# Altium footprint library BGA361C50P65P23X23_1200X1200X120.PcbLib: 1 footprints
Each footprint in its own frame and in the unit in brackets; x right, y up, seen from the top. Pads: shape width x height; smd on the part's side, far side on the other; paste and mask are expansions set on the pad; w line width, h text height; cw(c..) or ccw(c..) is an arc to the next point about the centre after c.
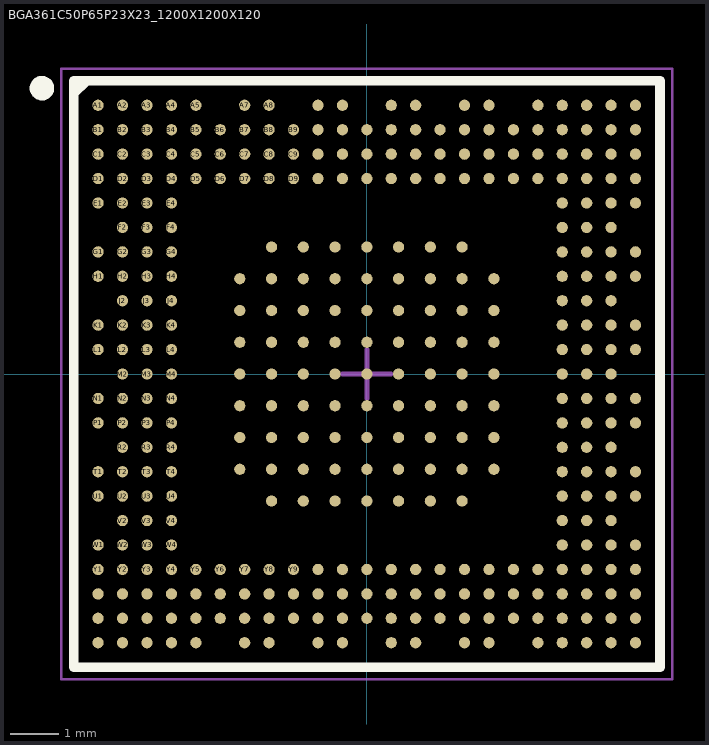
[diagram p0: the footprint, top view; thin cyan lines are the x and y axes]

## BGA361C50P65P23X23_1200X1200X120 [mm] "BGA, 361-Leads, Body 12.00x12.00mmx1.20mm, Pitch 0.50mm"
height 1.2
pads (361):
  round 0.23 smd mask+0.05: 1A2(-1.95,2.6) 1A3(-1.3,2.6) 1A4(-0.65,2.6) 1A5(0,2.6) 1A6(0.65,2.6) 1A7(1.3,2.6) 1A8(1.95,2.6) 1B1(-2.6,1.95) 1B2(-1.95,1.95) 1B3(-1.3,1.95) 1B4(-0.65,1.95) 1B5(0,1.95) 1B6(0.65,1.95) 1B7(1.3,1.95) 1B8(1.95,1.95) 1B9(2.6,1.95) 1C1(-2.6,1.3) 1C2(-1.95,1.3) 1C3(-1.3,1.3) 1C4(-0.65,1.3) 1C5(0,1.3) 1C6(0.65,1.3) 1C7(1.3,1.3) 1C8(1.95,1.3) 1C9(2.6,1.3) 1D1(-2.6,0.65) 1D2(-1.95,0.65) 1D3(-1.3,0.65) 1D4(-0.65,0.65) 1D5(0,0.65) 1D6(0.65,0.65) 1D7(1.3,0.65) 1D8(1.95,0.65) 1D9(2.6,0.65) 1E1(-2.6,0) 1E2(-1.95,0) 1E3(-1.3,0) 1E4(-0.65,0) 1E5(0,0) 1E6(0.65,0) 1E7(1.3,0) 1E8(1.95,0) 1E9(2.6,0) 1F1(-2.6,-0.65) 1F2(-1.95,-0.65) 1F3(-1.3,-0.65) 1F4(-0.65,-0.65) 1F5(0,-0.65) 1F6(0.65,-0.65) 1F7(1.3,-0.65) 1F8(1.95,-0.65) 1F9(2.6,-0.65) 1G1(-2.6,-1.3) 1G2(-1.95,-1.3) 1G3(-1.3,-1.3) 1G4(-0.65,-1.3) 1G5(0,-1.3) 1G6(0.65,-1.3) 1G7(1.3,-1.3) 1G8(1.95,-1.3) 1G9(2.6,-1.3) 1H1(-2.6,-1.95) 1H2(-1.95,-1.95) 1H3(-1.3,-1.95) 1H4(-0.65,-1.95) 1H5(0,-1.95) 1H6(0.65,-1.95) 1H7(1.3,-1.95) 1H8(1.95,-1.95) 1H9(2.6,-1.95) 1J2(-1.95,-2.6) 1J3(-1.3,-2.6) 1J4(-0.65,-2.6) 1J5(0,-2.6) 1J6(0.65,-2.6) 1J7(1.3,-2.6) 1J8(1.95,-2.6) A1(-5.5,5.5) A2(-5,5.5) A3(-4.5,5.5) A4(-4,5.5) A5(-3.5,5.5) A7(-2.5,5.5) A8(-2,5.5) A10(-1,5.5) A11(-0.5,5.5) A13(0.5,5.5) A14(1,5.5) A16(2,5.5) A17(2.5,5.5) A19(3.5,5.5) A20(4,5.5) A21(4.5,5.5) A22(5,5.5) A23(5.5,5.5) AA1(-5.5,-4.5) AA2(-5,-4.5) AA3(-4.5,-4.5) AA4(-4,-4.5) AA5(-3.5,-4.5) AA6(-3,-4.5) AA7(-2.5,-4.5) AA8(-2,-4.5) AA9(-1.5,-4.5) AA10(-1,-4.5) AA11(-0.5,-4.5) AA12(0,-4.5) AA13(0.5,-4.5) AA14(1,-4.5) AA15(1.5,-4.5) AA16(2,-4.5) AA17(2.5,-4.5) AA18(3,-4.5) AA19(3.5,-4.5) AA20(4,-4.5) AA21(4.5,-4.5) AA22(5,-4.5) AA23(5.5,-4.5) AB1(-5.5,-5) AB2(-5,-5) AB3(-4.5,-5) AB4(-4,-5) AB5(-3.5,-5) AB6(-3,-5) AB7(-2.5,-5) AB8(-2,-5) AB9(-1.5,-5) AB10(-1,-5) AB11(-0.5,-5) AB12(0,-5) AB13(0.5,-5) AB14(1,-5) AB15(1.5,-5) AB16(2,-5) AB17(2.5,-5) AB18(3,-5) AB19(3.5,-5) AB20(4,-5) AB21(4.5,-5) AB22(5,-5) AB23(5.5,-5) AC1(-5.5,-5.5) AC2(-5,-5.5) AC3(-4.5,-5.5) AC4(-4,-5.5) AC5(-3.5,-5.5) AC7(-2.5,-5.5) AC8(-2,-5.5) AC10(-1,-5.5) AC11(-0.5,-5.5) AC13(0.5,-5.5) AC14(1,-5.5) AC16(2,-5.5) AC17(2.5,-5.5) AC19(3.5,-5.5) AC20(4,-5.5) AC21(4.5,-5.5) AC22(5,-5.5) AC23(5.5,-5.5) B1(-5.5,5) B2(-5,5) B3(-4.5,5) B4(-4,5) B5(-3.5,5) B6(-3,5) B7(-2.5,5) B8(-2,5) B9(-1.5,5) B10(-1,5) B11(-0.5,5) B12(0,5) B13(0.5,5) B14(1,5) B15(1.5,5) B16(2,5) B17(2.5,5) B18(3,5) B19(3.5,5) B20(4,5) B21(4.5,5) B22(5,5) B23(5.5,5) C1(-5.5,4.5) C2(-5,4.5) C3(-4.5,4.5) C4(-4,4.5) C5(-3.5,4.5) C6(-3,4.5) C7(-2.5,4.5) C8(-2,4.5) C9(-1.5,4.5) C10(-1,4.5) C11(-0.5,4.5) C12(0,4.5) C13(0.5,4.5) C14(1,4.5) C15(1.5,4.5) C16(2,4.5) C17(2.5,4.5) C18(3,4.5) C19(3.5,4.5) C20(4,4.5) C21(4.5,4.5) C22(5,4.5) C23(5.5,4.5) D1(-5.5,4) D2(-5,4) D3(-4.5,4) D4(-4,4) D5(-3.5,4) D6(-3,4) D7(-2.5,4) D8(-2,4) D9(-1.5,4) D10(-1,4) D11(-0.5,4) D12(0,4) D13(0.5,4) D14(1,4) D15(1.5,4) D16(2,4) D17(2.5,4) D18(3,4) D19(3.5,4) D20(4,4) D21(4.5,4) D22(5,4) D23(5.5,4) E1(-5.5,3.5) E2(-5,3.5) E3(-4.5,3.5) E4(-4,3.5) E20(4,3.5) E21(4.5,3.5) E22(5,3.5) E23(5.5,3.5) F2(-5,3) F3(-4.5,3) F4(-4,3) F20(4,3) F21(4.5,3) F22(5,3) G1(-5.5,2.5) G2(-5,2.5) G3(-4.5,2.5) G4(-4,2.5) G20(4,2.5) G21(4.5,2.5) G22(5,2.5) G23(5.5,2.5) H1(-5.5,2) H2(-5,2) H3(-4.5,2) H4(-4,2) H20(4,2) H21(4.5,2) H22(5,2) H23(5.5,2) J2(-5,1.5) J3(-4.5,1.5) J4(-4,1.5) J20(4,1.5) J21(4.5,1.5) J22(5,1.5) K1(-5.5,1) K2(-5,1) K3(-4.5,1) K4(-4,1) K20(4,1) K21(4.5,1) K22(5,1) K23(5.5,1) L1(-5.5,0.5) L2(-5,0.5) L3(-4.5,0.5) L4(-4,0.5) L20(4,0.5) L21(4.5,0.5) L22(5,0.5) L23(5.5,0.5) M2(-5,0) M3(-4.5,0) M4(-4,0) M20(4,0) M21(4.5,0) M22(5,0) N1(-5.5,-0.5) N2(-5,-0.5) N3(-4.5,-0.5) N4(-4,-0.5) N20(4,-0.5) N21(4.5,-0.5) N22(5,-0.5) N23(5.5,-0.5) P1(-5.5,-1) P2(-5,-1) P3(-4.5,-1) P4(-4,-1) P20(4,-1) P21(4.5,-1) P22(5,-1) P23(5.5,-1) R2(-5,-1.5) R3(-4.5,-1.5) R4(-4,-1.5) R20(4,-1.5) R21(4.5,-1.5) R22(5,-1.5) T1(-5.5,-2) T2(-5,-2) T3(-4.5,-2) T4(-4,-2) T20(4,-2) T21(4.5,-2) T22(5,-2) T23(5.5,-2) U1(-5.5,-2.5) U2(-5,-2.5) U3(-4.5,-2.5) U4(-4,-2.5) U20(4,-2.5) U21(4.5,-2.5) U22(5,-2.5) U23(5.5,-2.5) V2(-5,-3) V3(-4.5,-3) V4(-4,-3) V20(4,-3) V21(4.5,-3) V22(5,-3) W1(-5.5,-3.5) W2(-5,-3.5) W3(-4.5,-3.5) W4(-4,-3.5) W20(4,-3.5) W21(4.5,-3.5) W22(5,-3.5) W23(5.5,-3.5) Y1(-5.5,-4) Y2(-5,-4) Y3(-4.5,-4) Y4(-4,-4) Y5(-3.5,-4) Y6(-3,-4) Y7(-2.5,-4) Y8(-2,-4) Y9(-1.5,-4) Y10(-1,-4) Y11(-0.5,-4) Y12(0,-4) Y13(0.5,-4) Y14(1,-4) Y15(1.5,-4) Y16(2,-4) Y17(2.5,-4) Y18(3,-4) Y19(3.5,-4) Y20(4,-4) Y21(4.5,-4) Y22(5,-4) Y23(5.5,-4)
Top Overlay:
  circle w0.25: c-6.65,5.85 r0.125
  region: -5.742,6 -6,5.742 -6,6
  lines w0.2: -6,5.742 -5.742,6 ; -6,-6 -6,6 6,6 6,-6 -6,-6
Top Assembly:
  lines w0.1: -6,-6 -6,6 6,6 6,-6 -6,-6
Top Courtyard:
  lines w0.05: -6.25,-6.25 -6.25,6.25 6.25,6.25 6.25,-6.25 -6.25,-6.25
  lines w0.1: -0.5,0 0.5,0 ; 0,-0.5 0,0.5
3D body: height 0.26, standoff -0.04, extent 5.35,5.35 5.65,5.65
3D body: height 0.26, standoff -0.04, extent 4.85,5.35 5.15,5.65
3D body: height 0.26, standoff -0.04, extent 4.35,5.35 4.65,5.65
3D body: height 0.26, standoff -0.04, extent 5.35,4.85 5.65,5.15
3D body: height 0.26, standoff -0.04, extent 4.85,4.85 5.15,5.15
3D body: height 0.26, standoff -0.04, extent 4.35,4.85 4.65,5.15
3D body: height 0.26, standoff -0.04, extent 4.85,4.35 5.15,4.65
3D body: height 0.26, standoff -0.04, extent 5.35,4.35 5.65,4.65
3D body: height 0.26, standoff -0.04, extent 4.35,4.35 4.65,4.65
3D body: height 0.26, standoff -0.04, extent 5.35,3.85 5.65,4.15
3D body: height 0.26, standoff -0.04, extent 4.85,3.85 5.15,4.15
3D body: height 0.26, standoff -0.04, extent 4.35,3.85 4.65,4.15
3D body: height 0.26, standoff -0.04, extent 5.35,3.35 5.65,3.65
3D body: height 0.26, standoff -0.04, extent 4.85,3.35 5.15,3.65
3D body: height 0.26, standoff -0.04, extent 4.85,2.85 5.15,3.15
3D body: height 0.26, standoff -0.04, extent 4.85,2.35 5.15,2.65
3D body: height 0.26, standoff -0.04, extent 5.35,2.35 5.65,2.65
3D body: height 0.26, standoff -0.04, extent 5.35,1.85 5.65,2.15
3D body: height 0.26, standoff -0.04, extent 4.85,1.85 5.15,2.15
3D body: height 0.26, standoff -0.04, extent 4.85,1.35 5.15,1.65
3D body: height 0.26, standoff -0.04, extent 4.85,0.85 5.15,1.15
3D body: height 0.26, standoff -0.04, extent 5.35,0.85 5.65,1.15
3D body: height 0.26, standoff -0.04, extent 4.35,0.85 4.65,1.15
3D body: height 0.26, standoff -0.04, extent 4.85,0.35 5.15,0.65
3D body: height 0.26, standoff -0.04, extent 5.35,0.35 5.65,0.65
3D body: height 0.26, standoff -0.04, extent 4.85,-0.15 5.15,0.15
3D body: height 0.26, standoff -0.04, extent 4.85,-0.65 5.15,-0.35
3D body: height 0.26, standoff -0.04, extent 5.35,-0.65 5.65,-0.35
3D body: height 0.26, standoff -0.04, extent 3.85,5.35 4.15,5.65
3D body: height 0.26, standoff -0.04, extent 3.35,5.35 3.65,5.65
3D body: height 0.26, standoff -0.04, extent 3.85,4.85 4.15,5.15
3D body: height 0.26, standoff -0.04, extent 3.35,4.85 3.65,5.15
3D body: height 0.26, standoff -0.04, extent 2.85,4.85 3.15,5.15
3D body: height 0.26, standoff -0.04, extent 3.85,4.35 4.15,4.65
3D body: height 0.26, standoff -0.04, extent 2.85,4.35 3.15,4.65
3D body: height 0.26, standoff -0.04, extent 3.35,4.35 3.65,4.65
3D body: height 0.26, standoff -0.04, extent 3.85,3.85 4.15,4.15
3D body: height 0.26, standoff -0.04, extent 2.85,3.85 3.15,4.15
3D body: height 0.26, standoff -0.04, extent 3.35,3.85 3.65,4.15
3D body: height 0.26, standoff -0.04, extent 4.35,3.35 4.65,3.65
3D body: height 0.26, standoff -0.04, extent 3.85,3.35 4.15,3.65
3D body: height 0.26, standoff -0.04, extent 4.35,2.85 4.65,3.15
3D body: height 0.26, standoff -0.04, extent 3.85,2.85 4.15,3.15
3D body: height 0.26, standoff -0.04, extent 4.35,2.35 4.65,2.65
3D body: height 0.26, standoff -0.04, extent 3.85,2.35 4.15,2.65
3D body: height 0.26, standoff -0.04, extent 4.35,1.85 4.65,2.15
3D body: height 0.26, standoff -0.04, extent 3.85,1.85 4.15,2.15
3D body: height 0.26, standoff -0.04, extent 2.45,1.8 2.75,2.1
3D body: height 0.26, standoff -0.04, extent 4.35,1.35 4.65,1.65
3D body: height 0.26, standoff -0.04, extent 3.85,1.35 4.15,1.65
3D body: height 0.26, standoff -0.04, extent 2.45,1.15 2.75,1.45
3D body: height 0.26, standoff -0.04, extent 3.85,0.85 4.15,1.15
3D body: height 0.26, standoff -0.04, extent 2.45,0.5 2.75,0.8
3D body: height 0.26, standoff -0.04, extent 4.35,0.35 4.65,0.65
3D body: height 0.26, standoff -0.04, extent 3.85,0.35 4.15,0.65
3D body: height 0.26, standoff -0.04, extent 4.35,-0.15 4.65,0.15
3D body: height 0.26, standoff -0.04, extent 3.85,-0.15 4.15,0.15
3D body: height 0.26, standoff -0.04, extent 2.45,-0.15 2.75,0.15
3D body: height 0.26, standoff -0.04, extent 4.35,-0.65 4.65,-0.35
3D body: height 0.26, standoff -0.04, extent 3.85,-0.65 4.15,-0.35
3D body: height 0.26, standoff -0.04, extent 5.35,-1.15 5.65,-0.85
3D body: height 0.26, standoff -0.04, extent 4.85,-1.15 5.15,-0.85
3D body: height 0.26, standoff -0.04, extent 4.35,-1.15 4.65,-0.85
3D body: height 0.26, standoff -0.04, extent 4.85,-1.65 5.15,-1.35
3D body: height 0.26, standoff -0.04, extent 4.35,-1.65 4.65,-1.35
3D body: height 0.26, standoff -0.04, extent 5.35,-2.15 5.65,-1.85
3D body: height 0.26, standoff -0.04, extent 4.85,-2.15 5.15,-1.85
3D body: height 0.26, standoff -0.04, extent 4.35,-2.15 4.65,-1.85
3D body: height 0.26, standoff -0.04, extent 5.35,-2.65 5.65,-2.35
3D body: height 0.26, standoff -0.04, extent 4.85,-2.65 5.15,-2.35
3D body: height 0.26, standoff -0.04, extent 4.35,-2.65 4.65,-2.35
3D body: height 0.26, standoff -0.04, extent 4.85,-3.15 5.15,-2.85
3D body: height 0.26, standoff -0.04, extent 4.35,-3.15 4.65,-2.85
3D body: height 0.26, standoff -0.04, extent 5.35,-3.65 5.65,-3.35
3D body: height 0.26, standoff -0.04, extent 4.85,-3.65 5.15,-3.35
3D body: height 0.26, standoff -0.04, extent 4.35,-3.65 4.65,-3.35
3D body: height 0.26, standoff -0.04, extent 4.85,-4.15 5.15,-3.85
3D body: height 0.26, standoff -0.04, extent 5.35,-4.15 5.65,-3.85
3D body: height 0.26, standoff -0.04, extent 4.35,-4.15 4.65,-3.85
3D body: height 0.26, standoff -0.04, extent 3.85,-4.15 4.15,-3.85
3D body: height 0.26, standoff -0.04, extent 5.35,-4.65 5.65,-4.35
3D body: height 0.26, standoff -0.04, extent 4.85,-4.65 5.15,-4.35
3D body: height 0.26, standoff -0.04, extent 4.35,-4.65 4.65,-4.35
3D body: height 0.26, standoff -0.04, extent 3.85,-4.65 4.15,-4.35
3D body: height 0.26, standoff -0.04, extent 4.85,-5.15 5.15,-4.85
3D body: height 0.26, standoff -0.04, extent 5.35,-5.15 5.65,-4.85
3D body: height 0.26, standoff -0.04, extent 4.35,-5.15 4.65,-4.85
3D body: height 0.26, standoff -0.04, extent 3.85,-5.15 4.15,-4.85
3D body: height 0.26, standoff -0.04, extent 5.35,-5.65 5.65,-5.35
3D body: height 0.26, standoff -0.04, extent 4.85,-5.65 5.15,-5.35
3D body: height 0.26, standoff -0.04, extent 4.35,-5.65 4.65,-5.35
3D body: height 0.26, standoff -0.04, extent 3.85,-5.65 4.15,-5.35
3D body: height 0.26, standoff -0.04, extent 3.85,-1.15 4.15,-0.85
3D body: height 0.26, standoff -0.04, extent 3.85,-3.65 4.15,-3.35
3D body: height 0.26, standoff -0.04, extent 3.85,-3.15 4.15,-2.85
3D body: height 0.26, standoff -0.04, extent 3.85,-2.65 4.15,-2.35
3D body: height 0.26, standoff -0.04, extent 3.85,-1.65 4.15,-1.35
3D body: height 0.26, standoff -0.04, extent 3.85,-2.15 4.15,-1.85
3D body: height 0.26, standoff -0.04, extent 3.35,-5.15 3.65,-4.85
3D body: height 0.26, standoff -0.04, extent 3.35,-5.65 3.65,-5.35
3D body: height 0.26, standoff -0.04, extent 3.35,-4.15 3.65,-3.85
3D body: height 0.26, standoff -0.04, extent 3.35,-4.65 3.65,-4.35
3D body: height 0.26, standoff -0.04, extent 2.85,-4.15 3.15,-3.85
3D body: height 0.26, standoff -0.04, extent 2.85,-4.65 3.15,-4.35
3D body: height 0.26, standoff -0.04, extent 2.85,-5.15 3.15,-4.85
3D body: height 0.26, standoff -0.04, extent 2.45,-0.8 2.75,-0.5
3D body: height 0.26, standoff -0.04, extent 2.45,-2.1 2.75,-1.8
3D body: height 0.26, standoff -0.04, extent 2.45,-1.45 2.75,-1.15
3D body: height 0.26, standoff -0.04, extent 2.35,5.35 2.65,5.65
3D body: height 0.26, standoff -0.04, extent 2.35,4.85 2.65,5.15
3D body: height 0.26, standoff -0.04, extent 2.35,4.35 2.65,4.65
3D body: height 0.26, standoff -0.04, extent 2.35,3.85 2.65,4.15
3D body: height 0.26, standoff -0.04, extent 1.85,4.85 2.15,5.15
3D body: height 0.26, standoff -0.04, extent 1.85,5.35 2.15,5.65
3D body: height 0.26, standoff -0.04, extent 1.85,4.35 2.15,4.65
3D body: height 0.26, standoff -0.04, extent 1.85,3.85 2.15,4.15
3D body: height 0.26, standoff -0.04, extent 1.35,4.85 1.65,5.15
3D body: height 0.26, standoff -0.04, extent 1.35,4.35 1.65,4.65
3D body: height 0.26, standoff -0.04, extent 0.85,5.35 1.15,5.65
3D body: height 0.26, standoff -0.04, extent 0.85,4.85 1.15,5.15
3D body: height 0.26, standoff -0.04, extent 0.85,4.35 1.15,4.65
3D body: height 0.26, standoff -0.04, extent 0.85,3.85 1.15,4.15
3D body: height 0.26, standoff -0.04, extent 0.35,4.85 0.65,5.15
3D body: height 0.26, standoff -0.04, extent 0.35,5.35 0.65,5.65
3D body: height 0.26, standoff -0.04, extent 0.35,4.35 0.65,4.65
3D body: height 0.26, standoff -0.04, extent 0.35,3.85 0.65,4.15
3D body: height 0.26, standoff -0.04, extent -0.15,4.85 0.15,5.15
3D body: height 0.26, standoff -0.04, extent -0.15,4.35 0.15,4.65
3D body: height 0.26, standoff -0.04, extent -0.15,3.85 0.15,4.15
3D body: height 0.26, standoff -0.04, extent -0.65,5.35 -0.35,5.65
3D body: height 0.26, standoff -0.04, extent -0.65,4.85 -0.35,5.15
3D body: height 0.26, standoff -0.04, extent -0.65,4.35 -0.35,4.65
3D body: height 0.26, standoff -0.04, extent -0.65,3.85 -0.35,4.15
3D body: height 0.26, standoff -0.04, extent -1.15,4.85 -0.85,5.15
3D body: height 0.26, standoff -0.04, extent -1.15,5.35 -0.85,5.65
3D body: height 0.26, standoff -0.04, extent -1.15,4.35 -0.85,4.65
3D body: height 0.26, standoff -0.04, extent -1.15,3.85 -0.85,4.15
3D body: height 0.26, standoff -0.04, extent -1.65,4.85 -1.35,5.15
3D body: height 0.26, standoff -0.04, extent -1.65,4.35 -1.35,4.65
3D body: height 0.26, standoff -0.04, extent -2.15,4.35 -1.85,4.65
3D body: height 0.26, standoff -0.04, extent 1.8,2.45 2.1,2.75
3D body: height 0.26, standoff -0.04, extent 1.8,0.5 2.1,0.8
3D body: height 0.26, standoff -0.04, extent 1.8,-0.15 2.1,0.15
3D body: height 0.26, standoff -0.04, extent 1.8,1.15 2.1,1.45
3D body: height 0.26, standoff -0.04, extent 1.8,1.8 2.1,2.1
3D body: height 0.26, standoff -0.04, extent 1.35,3.85 1.65,4.15
3D body: height 0.26, standoff -0.04, extent 1.15,2.45 1.45,2.75
3D body: height 0.26, standoff -0.04, extent 1.15,1.15 1.45,1.45
3D body: height 0.26, standoff -0.04, extent 1.15,1.8 1.45,2.1
3D body: height 0.26, standoff -0.04, extent 1.15,0.5 1.45,0.8
3D body: height 0.26, standoff -0.04, extent 0.5,2.45 0.8,2.75
3D body: height 0.26, standoff -0.04, extent 0.5,1.8 0.8,2.1
3D body: height 0.26, standoff -0.04, extent 0.5,0.5 0.8,0.8
3D body: height 0.26, standoff -0.04, extent 0.5,1.15 0.8,1.45
3D body: height 0.26, standoff -0.04, extent -0.15,2.45 0.15,2.75
3D body: height 0.26, standoff -0.04, extent -0.15,1.8 0.15,2.1
3D body: height 0.26, standoff -0.04, extent -0.15,0.5 0.15,0.8
3D body: height 0.26, standoff -0.04, extent -0.15,1.15 0.15,1.45
3D body: height 0.26, standoff -0.04, extent -0.8,2.45 -0.5,2.75
3D body: height 0.26, standoff -0.04, extent -0.8,-0.15 -0.5,0.15
3D body: height 0.26, standoff -0.04, extent -0.8,1.8 -0.5,2.1
3D body: height 0.26, standoff -0.04, extent -0.8,0.5 -0.5,0.8
3D body: height 0.26, standoff -0.04, extent -0.8,1.15 -0.5,1.45
3D body: height 0.26, standoff -0.04, extent -1.45,2.45 -1.15,2.75
3D body: height 0.26, standoff -0.04, extent -1.45,0.5 -1.15,0.8
3D body: height 0.26, standoff -0.04, extent -1.45,1.8 -1.15,2.1
3D body: height 0.26, standoff -0.04, extent -1.45,1.15 -1.15,1.45
3D body: height 0.26, standoff -0.04, extent -1.65,3.85 -1.35,4.15
3D body: height 0.26, standoff -0.04, extent -2.1,2.45 -1.8,2.75
3D body: height 0.26, standoff -0.04, extent -2.1,1.8 -1.8,2.1
3D body: height 0.26, standoff -0.04, extent -2.1,0.5 -1.8,0.8
3D body: height 0.26, standoff -0.04, extent -2.1,1.15 -1.8,1.45
3D body: height 0.26, standoff -0.04, extent -2.15,5.35 -1.85,5.65
3D body: height 0.26, standoff -0.04, extent -2.15,4.85 -1.85,5.15
3D body: height 0.26, standoff -0.04, extent -2.15,3.85 -1.85,4.15
3D body: height 0.26, standoff -0.04, extent -2.65,5.35 -2.35,5.65
3D body: height 0.26, standoff -0.04, extent -2.65,4.85 -2.35,5.15
3D body: height 0.26, standoff -0.04, extent -2.65,4.35 -2.35,4.65
3D body: height 0.26, standoff -0.04, extent -2.65,3.85 -2.35,4.15
3D body: height 0.26, standoff -0.04, extent -3.15,4.85 -2.85,5.15
3D body: height 0.26, standoff -0.04, extent -3.15,4.35 -2.85,4.65
3D body: height 0.26, standoff -0.04, extent -3.15,3.85 -2.85,4.15
3D body: height 0.26, standoff -0.04, extent -3.65,5.35 -3.35,5.65
3D body: height 0.26, standoff -0.04, extent -3.65,4.35 -3.35,4.65
3D body: height 0.26, standoff -0.04, extent -3.65,4.85 -3.35,5.15
3D body: height 0.26, standoff -0.04, extent -3.65,3.85 -3.35,4.15
3D body: height 0.26, standoff -0.04, extent -4.15,5.35 -3.85,5.65
3D body: height 0.26, standoff -0.04, extent -4.15,4.85 -3.85,5.15
3D body: height 0.26, standoff -0.04, extent -4.15,4.35 -3.85,4.65
3D body: height 0.26, standoff -0.04, extent -4.15,3.85 -3.85,4.15
3D body: height 0.26, standoff -0.04, extent -4.65,5.35 -4.35,5.65
3D body: height 0.26, standoff -0.04, extent -4.65,4.35 -4.35,4.65
3D body: height 0.26, standoff -0.04, extent -4.65,4.85 -4.35,5.15
3D body: height 0.26, standoff -0.04, extent -4.65,3.85 -4.35,4.15
3D body: height 0.26, standoff -0.04, extent -5.15,4.35 -4.85,4.65
3D body: height 0.26, standoff -0.04, extent -5.15,4.85 -4.85,5.15
3D body: height 0.26, standoff -0.04, extent -5.15,5.35 -4.85,5.65
3D body: height 0.26, standoff -0.04, extent -5.15,3.85 -4.85,4.15
3D body: height 0.26, standoff -0.04, extent -5.65,4.85 -5.35,5.15
3D body: height 0.26, standoff -0.04, extent -5.65,4.35 -5.35,4.65
3D body: height 0.26, standoff -0.04, extent -5.65,5.35 -5.35,5.65
3D body: height 0.26, standoff -0.04, extent -5.65,3.85 -5.35,4.15
3D body: height 1.21, standoff 1.2, extent -5.8,5.2 -5.2,5.8
3D body: height 1.21, standoff 1.2, extent -5.8,5.2 -5.2,5.8
3D body: height 0.26, standoff -0.04, extent -2.75,0.5 -2.45,0.8
3D body: height 0.26, standoff -0.04, extent -2.75,1.15 -2.45,1.45
3D body: height 0.26, standoff -0.04, extent -2.75,1.8 -2.45,2.1
3D body: height 0.26, standoff -0.04, extent -4.15,2.35 -3.85,2.65
3D body: height 0.26, standoff -0.04, extent -4.15,1.85 -3.85,2.15
3D body: height 0.26, standoff -0.04, extent -4.15,0.85 -3.85,1.15
3D body: height 0.26, standoff -0.04, extent -4.15,0.35 -3.85,0.65
3D body: height 0.26, standoff -0.04, extent -4.15,-0.15 -3.85,0.15
3D body: height 0.26, standoff -0.04, extent -4.15,3.35 -3.85,3.65
3D body: height 0.26, standoff -0.04, extent -4.15,2.85 -3.85,3.15
3D body: height 0.26, standoff -0.04, extent -4.15,1.35 -3.85,1.65
3D body: height 0.26, standoff -0.04, extent -4.65,0.35 -4.35,0.65
3D body: height 0.26, standoff -0.04, extent -4.65,-0.15 -4.35,0.15
3D body: height 0.26, standoff -0.04, extent -4.65,1.35 -4.35,1.65
3D body: height 0.26, standoff -0.04, extent -4.65,3.35 -4.35,3.65
3D body: height 0.26, standoff -0.04, extent -4.65,1.85 -4.35,2.15
3D body: height 0.26, standoff -0.04, extent -4.65,2.35 -4.35,2.65
3D body: height 0.26, standoff -0.04, extent -4.65,0.85 -4.35,1.15
3D body: height 0.26, standoff -0.04, extent -4.65,2.85 -4.35,3.15
3D body: height 0.26, standoff -0.04, extent -5.15,2.85 -4.85,3.15
3D body: height 0.26, standoff -0.04, extent -5.15,0.85 -4.85,1.15
3D body: height 0.26, standoff -0.04, extent -5.15,1.85 -4.85,2.15
3D body: height 0.26, standoff -0.04, extent -5.15,1.35 -4.85,1.65
3D body: height 0.26, standoff -0.04, extent -5.15,2.35 -4.85,2.65
3D body: height 0.26, standoff -0.04, extent -5.15,0.35 -4.85,0.65
3D body: height 0.26, standoff -0.04, extent -5.15,-0.15 -4.85,0.15
3D body: height 0.26, standoff -0.04, extent -5.15,3.35 -4.85,3.65
3D body: height 0.26, standoff -0.04, extent -5.65,0.85 -5.35,1.15
3D body: height 0.26, standoff -0.04, extent -5.65,1.85 -5.35,2.15
3D body: height 0.26, standoff -0.04, extent -5.65,2.35 -5.35,2.65
3D body: height 0.26, standoff -0.04, extent -5.65,0.35 -5.35,0.65
3D body: height 0.26, standoff -0.04, extent -5.65,3.35 -5.35,3.65
3D body: height 0.26, standoff -0.04, extent 1.8,-1.45 2.1,-1.15
3D body: height 0.26, standoff -0.04, extent 1.8,-0.8 2.1,-0.5
3D body: height 0.26, standoff -0.04, extent 1.8,-2.1 2.1,-1.8
3D body: height 0.26, standoff -0.04, extent 1.8,-2.75 2.1,-2.45
3D body: height 0.26, standoff -0.04, extent 1.15,-0.15 1.45,0.15
3D body: height 0.26, standoff -0.04, extent 1.15,-1.45 1.45,-1.15
3D body: height 0.26, standoff -0.04, extent 1.15,-0.8 1.45,-0.5
3D body: height 0.26, standoff -0.04, extent 1.15,-2.1 1.45,-1.8
3D body: height 0.26, standoff -0.04, extent 1.15,-2.75 1.45,-2.45
3D body: height 0.26, standoff -0.04, extent 0.5,-1.45 0.8,-1.15
3D body: height 0.26, standoff -0.04, extent 0.5,-0.15 0.8,0.15
3D body: height 0.26, standoff -0.04, extent 0.5,-0.8 0.8,-0.5
3D body: height 0.26, standoff -0.04, extent 0.5,-2.1 0.8,-1.8
3D body: height 0.26, standoff -0.04, extent 0.5,-2.75 0.8,-2.45
3D body: height 0.26, standoff -0.04, extent -0.15,-0.8 0.15,-0.5
3D body: height 0.26, standoff -0.04, extent -0.15,-1.45 0.15,-1.15
3D body: height 0.26, standoff -0.04, extent -0.15,-0.15 0.15,0.15
3D body: height 0.26, standoff -0.04, extent -0.15,-2.1 0.15,-1.8
3D body: height 0.26, standoff -0.04, extent -0.15,-2.75 0.15,-2.45
3D body: height 1.2, standoff 0.2, extent -6.075,-6.075 6.075,6.075
3D body: height 0.26, standoff -0.04, extent -0.65,-4.15 -0.35,-3.85
3D body: height 0.26, standoff -0.04, extent -0.8,-1.45 -0.5,-1.15
3D body: height 0.26, standoff -0.04, extent -0.8,-0.8 -0.5,-0.5
3D body: height 0.26, standoff -0.04, extent -0.8,-2.1 -0.5,-1.8
3D body: height 0.26, standoff -0.04, extent -0.8,-2.75 -0.5,-2.45
3D body: height 0.26, standoff -0.04, extent -1.45,-1.45 -1.15,-1.15
3D body: height 0.26, standoff -0.04, extent -1.45,-0.15 -1.15,0.15
3D body: height 0.26, standoff -0.04, extent -1.45,-0.8 -1.15,-0.5
3D body: height 0.26, standoff -0.04, extent -1.45,-2.1 -1.15,-1.8
3D body: height 0.26, standoff -0.04, extent -1.45,-2.75 -1.15,-2.45
3D body: height 0.26, standoff -0.04, extent -2.1,-1.45 -1.8,-1.15
3D body: height 0.26, standoff -0.04, extent -2.1,-2.1 -1.8,-1.8
3D body: height 0.26, standoff -0.04, extent 2.35,-4.15 2.65,-3.85
3D body: height 0.26, standoff -0.04, extent 2.35,-5.15 2.65,-4.85
3D body: height 0.26, standoff -0.04, extent 2.35,-4.65 2.65,-4.35
3D body: height 0.26, standoff -0.04, extent 2.35,-5.65 2.65,-5.35
3D body: height 0.26, standoff -0.04, extent 1.85,-4.15 2.15,-3.85
3D body: height 0.26, standoff -0.04, extent 1.85,-5.15 2.15,-4.85
3D body: height 0.26, standoff -0.04, extent 1.85,-4.65 2.15,-4.35
3D body: height 0.26, standoff -0.04, extent 1.85,-5.65 2.15,-5.35
3D body: height 0.26, standoff -0.04, extent 1.35,-4.15 1.65,-3.85
3D body: height 0.26, standoff -0.04, extent 1.35,-5.15 1.65,-4.85
3D body: height 0.26, standoff -0.04, extent 1.35,-4.65 1.65,-4.35
3D body: height 0.26, standoff -0.04, extent 0.85,-4.15 1.15,-3.85
3D body: height 0.26, standoff -0.04, extent 0.85,-5.15 1.15,-4.85
3D body: height 0.26, standoff -0.04, extent 0.85,-4.65 1.15,-4.35
3D body: height 0.26, standoff -0.04, extent 0.85,-5.65 1.15,-5.35
3D body: height 0.26, standoff -0.04, extent 0.35,-4.15 0.65,-3.85
3D body: height 0.26, standoff -0.04, extent 0.35,-5.15 0.65,-4.85
3D body: height 0.26, standoff -0.04, extent 0.35,-4.65 0.65,-4.35
3D body: height 0.26, standoff -0.04, extent 0.35,-5.65 0.65,-5.35
3D body: height 0.26, standoff -0.04, extent -0.15,-4.15 0.15,-3.85
3D body: height 0.26, standoff -0.04, extent -0.15,-4.65 0.15,-4.35
3D body: height 0.26, standoff -0.04, extent -0.15,-5.15 0.15,-4.85
3D body: height 0.26, standoff -0.04, extent -0.65,-4.65 -0.35,-4.35
3D body: height 0.26, standoff -0.04, extent -0.65,-5.15 -0.35,-4.85
3D body: height 0.26, standoff -0.04, extent -0.65,-5.65 -0.35,-5.35
3D body: height 0.26, standoff -0.04, extent -1.15,-4.15 -0.85,-3.85
3D body: height 0.26, standoff -0.04, extent -1.15,-5.15 -0.85,-4.85
3D body: height 0.26, standoff -0.04, extent -1.15,-4.65 -0.85,-4.35
3D body: height 0.26, standoff -0.04, extent -1.15,-5.65 -0.85,-5.35
3D body: height 0.26, standoff -0.04, extent -1.65,-4.15 -1.35,-3.85
3D body: height 0.26, standoff -0.04, extent -1.65,-5.15 -1.35,-4.85
3D body: height 0.26, standoff -0.04, extent -1.65,-4.65 -1.35,-4.35
3D body: height 0.26, standoff -0.04, extent -2.1,-0.8 -1.8,-0.5
3D body: height 0.26, standoff -0.04, extent -2.1,-0.15 -1.8,0.15
3D body: height 0.26, standoff -0.04, extent -2.1,-2.75 -1.8,-2.45
3D body: height 0.26, standoff -0.04, extent -2.75,-1.45 -2.45,-1.15
3D body: height 0.26, standoff -0.04, extent -2.75,-0.8 -2.45,-0.5
3D body: height 0.26, standoff -0.04, extent -2.75,-0.15 -2.45,0.15
3D body: height 0.26, standoff -0.04, extent -2.75,-2.1 -2.45,-1.8
3D body: height 0.26, standoff -0.04, extent -4.15,-0.65 -3.85,-0.35
3D body: height 0.26, standoff -0.04, extent -4.15,-1.15 -3.85,-0.85
3D body: height 0.26, standoff -0.04, extent -4.15,-1.65 -3.85,-1.35
3D body: height 0.26, standoff -0.04, extent -4.15,-3.15 -3.85,-2.85
3D body: height 0.26, standoff -0.04, extent -4.15,-2.15 -3.85,-1.85
3D body: height 0.26, standoff -0.04, extent -4.15,-2.65 -3.85,-2.35
3D body: height 0.26, standoff -0.04, extent -4.65,-0.65 -4.35,-0.35
3D body: height 0.26, standoff -0.04, extent -4.65,-1.15 -4.35,-0.85
3D body: height 0.26, standoff -0.04, extent -4.65,-1.65 -4.35,-1.35
3D body: height 0.26, standoff -0.04, extent -4.65,-3.15 -4.35,-2.85
3D body: height 0.26, standoff -0.04, extent -4.65,-2.65 -4.35,-2.35
3D body: height 0.26, standoff -0.04, extent -4.65,-2.15 -4.35,-1.85
3D body: height 0.26, standoff -0.04, extent -4.65,-3.65 -4.35,-3.35
3D body: height 0.26, standoff -0.04, extent -5.15,-0.65 -4.85,-0.35
3D body: height 0.26, standoff -0.04, extent -5.15,-1.15 -4.85,-0.85
3D body: height 0.26, standoff -0.04, extent -5.15,-1.65 -4.85,-1.35
3D body: height 0.26, standoff -0.04, extent -5.15,-3.15 -4.85,-2.85
3D body: height 0.26, standoff -0.04, extent -5.15,-2.65 -4.85,-2.35
3D body: height 0.26, standoff -0.04, extent -5.15,-2.15 -4.85,-1.85
3D body: height 0.26, standoff -0.04, extent -5.15,-3.65 -4.85,-3.35
3D body: height 0.26, standoff -0.04, extent -5.65,-1.15 -5.35,-0.85
3D body: height 0.26, standoff -0.04, extent -5.65,-0.65 -5.35,-0.35
3D body: height 0.26, standoff -0.04, extent -5.65,-2.65 -5.35,-2.35
3D body: height 0.26, standoff -0.04, extent -5.65,-2.15 -5.35,-1.85
3D body: height 0.26, standoff -0.04, extent -5.65,-3.65 -5.35,-3.35
3D body: height 0.26, standoff -0.04, extent -2.15,-4.15 -1.85,-3.85
3D body: height 0.26, standoff -0.04, extent -2.15,-5.65 -1.85,-5.35
3D body: height 0.26, standoff -0.04, extent -2.15,-5.15 -1.85,-4.85
3D body: height 0.26, standoff -0.04, extent -2.15,-4.65 -1.85,-4.35
3D body: height 0.26, standoff -0.04, extent -2.65,-4.65 -2.35,-4.35
3D body: height 0.26, standoff -0.04, extent -2.65,-5.15 -2.35,-4.85
3D body: height 0.26, standoff -0.04, extent -2.65,-4.15 -2.35,-3.85
3D body: height 0.26, standoff -0.04, extent -2.65,-5.65 -2.35,-5.35
3D body: height 0.26, standoff -0.04, extent -3.15,-4.15 -2.85,-3.85
3D body: height 0.26, standoff -0.04, extent -3.15,-5.15 -2.85,-4.85
3D body: height 0.26, standoff -0.04, extent -3.15,-4.65 -2.85,-4.35
3D body: height 0.26, standoff -0.04, extent -3.65,-5.15 -3.35,-4.85
3D body: height 0.26, standoff -0.04, extent -3.65,-4.65 -3.35,-4.35
3D body: height 0.26, standoff -0.04, extent -3.65,-4.15 -3.35,-3.85
3D body: height 0.26, standoff -0.04, extent -3.65,-5.65 -3.35,-5.35
3D body: height 0.26, standoff -0.04, extent -4.15,-5.15 -3.85,-4.85
3D body: height 0.26, standoff -0.04, extent -4.15,-5.65 -3.85,-5.35
3D body: height 0.26, standoff -0.04, extent -4.15,-4.65 -3.85,-4.35
3D body: height 0.26, standoff -0.04, extent -4.15,-4.15 -3.85,-3.85
3D body: height 0.26, standoff -0.04, extent -4.15,-3.65 -3.85,-3.35
3D body: height 0.26, standoff -0.04, extent -4.65,-5.15 -4.35,-4.85
3D body: height 0.26, standoff -0.04, extent -4.65,-4.65 -4.35,-4.35
3D body: height 0.26, standoff -0.04, extent -4.65,-5.65 -4.35,-5.35
3D body: height 0.26, standoff -0.04, extent -4.65,-4.15 -4.35,-3.85
3D body: height 0.26, standoff -0.04, extent -5.15,-4.65 -4.85,-4.35
3D body: height 0.26, standoff -0.04, extent -5.15,-5.15 -4.85,-4.85
3D body: height 0.26, standoff -0.04, extent -5.15,-4.15 -4.85,-3.85
3D body: height 0.26, standoff -0.04, extent -5.15,-5.65 -4.85,-5.35
3D body: height 0.26, standoff -0.04, extent -5.65,-5.15 -5.35,-4.85
3D body: height 0.26, standoff -0.04, extent -5.65,-4.65 -5.35,-4.35
3D body: height 0.26, standoff -0.04, extent -5.65,-4.15 -5.35,-3.85
3D body: height 0.26, standoff -0.04, extent -5.65,-5.65 -5.35,-5.35